# EAGLE library part MSP430X11X1---DW20 (library MSP430F1xxx)
MSP430C1101IDW 1KB ROM/128B RAM MSP430C1111IDW 2KB ROM/128B RAM MSP430C1121IDW 4KB ROM/256B RAM MSP430F1101AIDW 1KB + 128B FlashMemory/128B RAM MSP430F1111AIDW 2KB + 256B FlashMemory/128B RAM MSP430F1121AIDW 4KB + 256B FlashMemory/256B RAM Package SOIC-20(DW20)
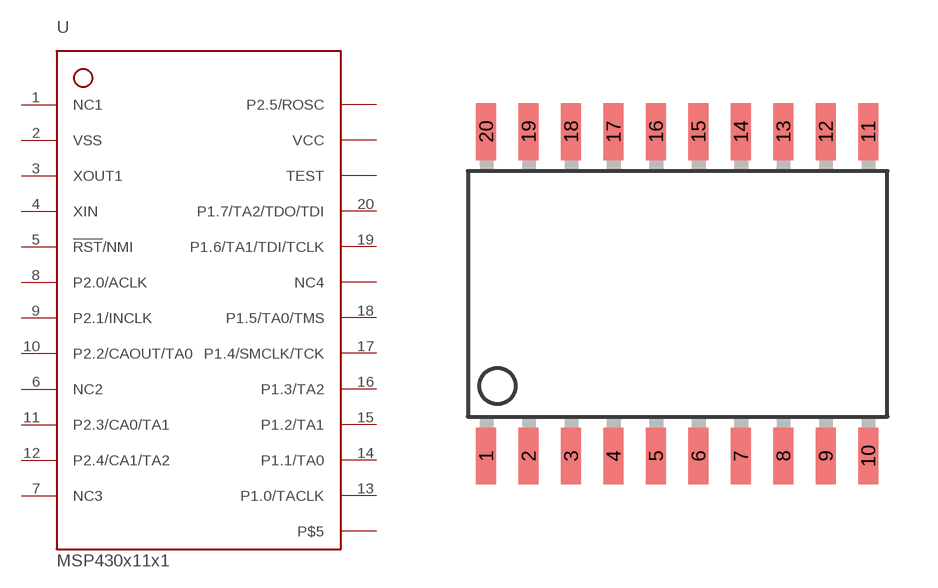
[diagram p2: symbol with the pads of DW20; footprint DW20]

Designator prefix -

## MSP430X11X1---DW20  [DW20]
1  NC1  nc
2  VSS  pwr
3  XOUT1  out
4  XIN  in
5  !RST!/NMI  in
6  NC2  nc
7  NC3  nc
8  P2.0/ACLK
9  P2.1/INCLK
10  P2.2/CAOUT/TA0
11  P2.3/CA0/TA1
12  P2.4/CA1/TA2
13  P1.0/TACLK
14  P1.1/TA0
15  P1.2/TA1
16  P1.3/TA2
17  P1.4/SMCLK/TCK
18  P1.5/TA0/TMS
19  P1.6/TA1/TDI/TCLK
20  P1.7/TA2/TDO/TDI

## Footprint DW20 (pad centres in mm)
*** TI: DW *** JEDEC: R-PDSO-G20 *** 20 PINS ***
smd 0.6 x 1.7: 1 -5.715,-4.85; 2 -4.445,-4.85; 3 -3.175,-4.85; 4 -1.905,-4.85; 5 -0.635,-4.85; 6 0.635,-4.85; 7 1.905,-4.85; 8 3.175,-4.85; 9 4.445,-4.85; 10 5.715,-4.85; 11 5.715,4.85; 12 4.445,4.85; 13 3.175,4.85; 14 1.905,4.85; 15 0.635,4.85; 16 -0.635,4.85; 17 -1.905,4.85; 18 -3.175,4.85; 19 -4.445,4.85; 20 -5.715,4.85